# EAGLE library part MCP73844 (library ds_ic_vreg)
Single or Dual Cell Lithium-Ion/ Lithium-Polymer Charge Management Controller
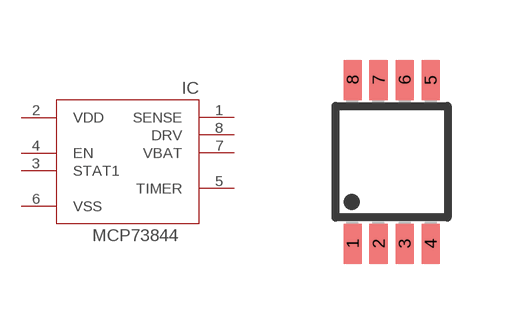
[diagram p17: symbol with the pads of MSOP8; footprint MSOP8]

Designator prefix IC

## MCP73844  [MSOP8]
1  SENSE
2  VDD
3  STAT1
4  EN
5  TIMER
6  VSS
7  VBAT
8  DRV

## Footprint MSOP8 (pad centres in mm)
Micro Small Outline Package
smd 0.45 x 1: 1 -0.975,-2.05; 2 -0.325,-2.05; 3 0.325,-2.05; 4 0.975,-2.05; 5 0.975,2.05; 6 0.325,2.05; 7 -0.325,2.05; 8 -0.975,2.05